# Altium schematic symbol library digital_mcu.SchLib: 16 symbols
Pins are listed as number, name and electrical type; pins without a type are passive.

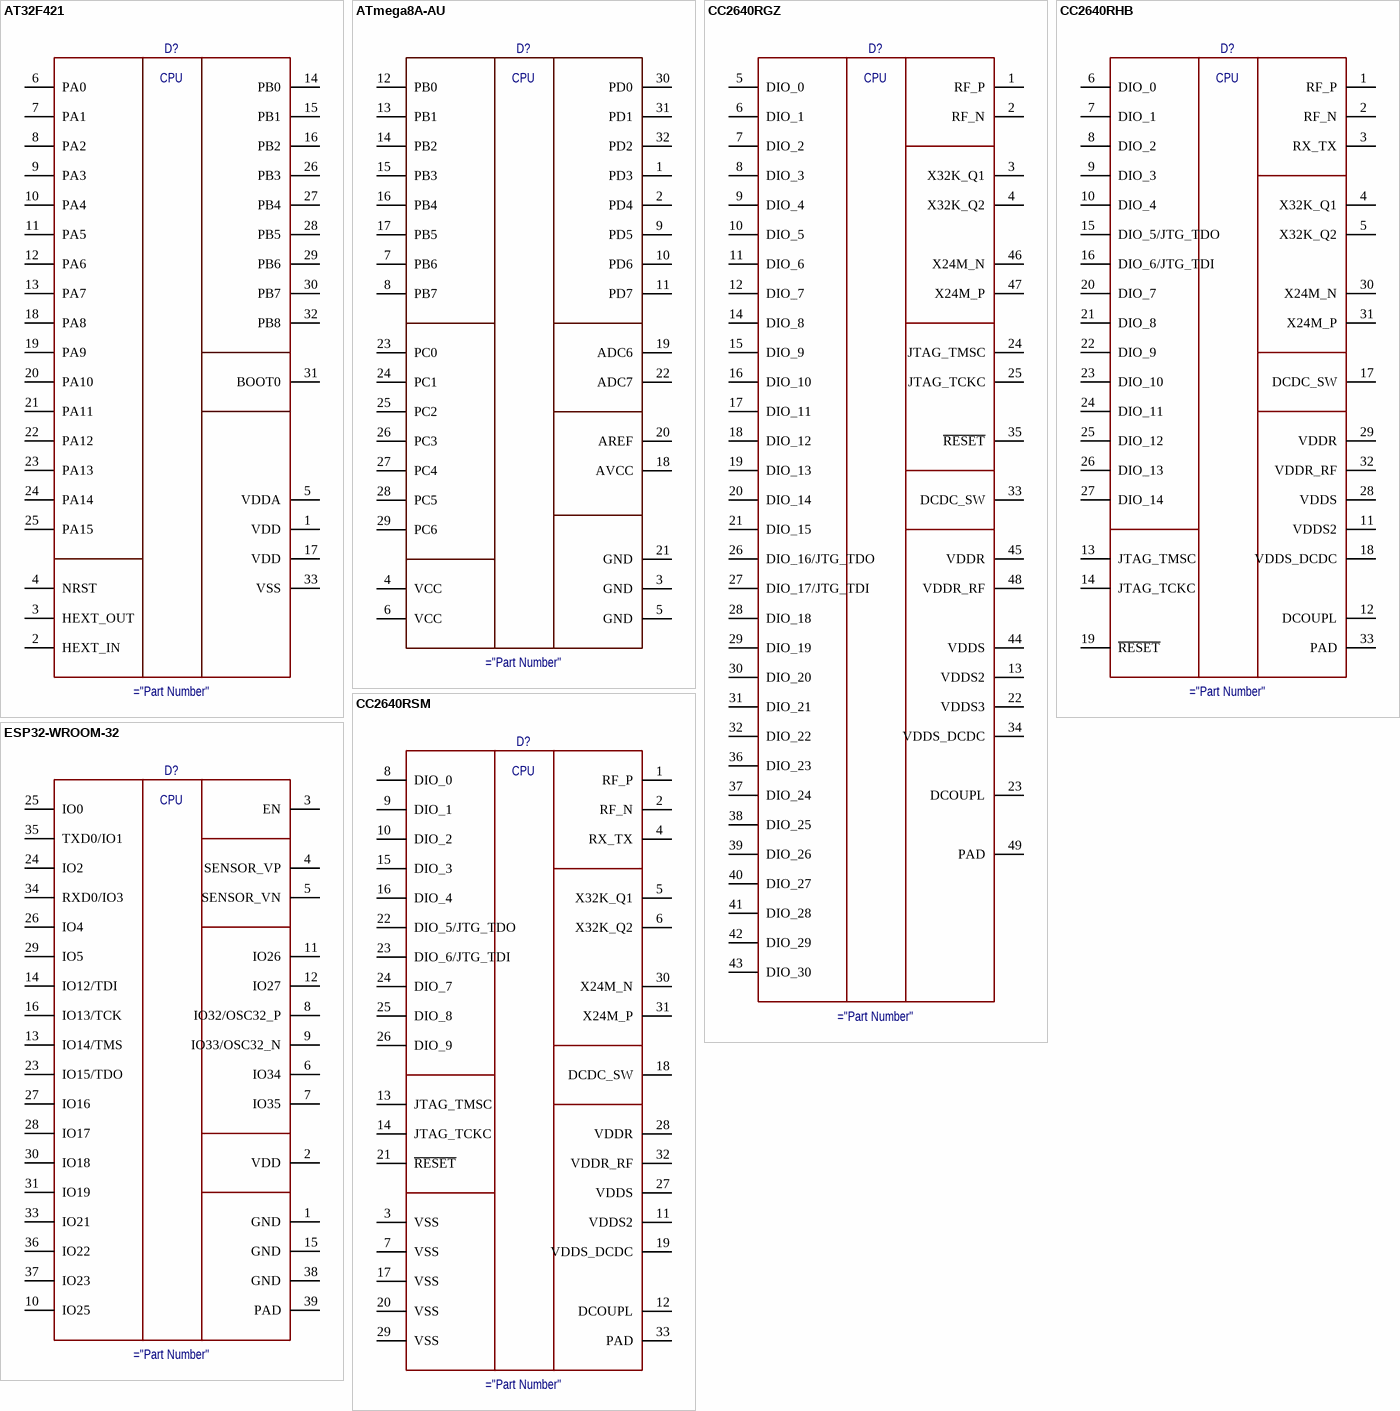
[diagram p0: symbols AT32F421 to ESP32-WROOM-32]

## AT32F421
designator D?
ARM-based 32-bit Cortex-M4 MCU
pins: 1 VDD, 2 HEXT_IN, 3 HEXT_OUT, 4 NRST, 5 VDDA, 6 PA0, 7 PA1, 8 PA2, 9 PA3, 10 PA4, 11 PA5, 12 PA6, 13 PA7, 14 PB0, 15 PB1, 16 PB2, 17 NC hidden, 17 VDD, 18 NC hidden, 18 PA8, 19 NC hidden, 19 PA9, 20 NC hidden, 20 PA10, 21 NC hidden, 21 PA11, 22 NC hidden, 22 PA12, 23 PA13, 24 PA14, 25 PA15, 26 PB3, 27 PB4, 28 PB5, 29 PB6, 30 PB7, 31 BOOT0, 32 NC hidden, 32 PB8, 33 VSS
text: CPU

## ATmega8A-AU
designator D?
MCU ESP32
pins: 1 PD3, 2 PD4, 3 GND, 4 VCC, 5 GND, 6 VCC, 7 PB6, 8 PB7, 9 PD5, 10 PD6, 11 PD7, 12 PB0, 13 PB1, 14 PB2, 15 PB3, 16 PB4, 17 NC hidden, 17 PB5, 18 NC hidden, 18 AVCC, 19 NC hidden, 19 ADC6, 20 NC hidden, 20 AREF, 21 NC hidden, 21 GND, 22 NC hidden, 22 ADC7, 23 PC0, 24 PC1, 25 PC2, 26 PC3, 27 PC4, 28 PC5, 29 PC6, 30 PD0, 31 PD1, 32 NC hidden, 32 PD2
text: CPU

## CC2640RGZ
designator D?
BLE Wireless MCU Cortex-M3 48-pins
pins: 1 RF_P, 2 RF_N, 3 X32K_Q1, 4 X32K_Q2, 5 DIO_0, 6 DIO_1, 7 DIO_2, 8 DIO_3, 9 DIO_4, 10 DIO_5, 11 DIO_6, 12 DIO_7, 13 VDDS2, 14 DIO_8, 15 DIO_9, 16 DIO_10, 17 DIO_11, 18 DIO_12, 19 DIO_13, 20 DIO_14, 21 DIO_15, 22 VDDS3, 23 DCOUPL, 24 JTAG_TMSC, 25 JTAG_TCKC, 26 DIO_16/JTG_TDO, 27 DIO_17/JTG_TDI, 28 DIO_18, 29 DIO_19, 30 DIO_20, 31 DIO_21, 32 DIO_22, 33 DCDC_SW, 34 VDDS_DCDC, 35 ~{RESET}, 36 DIO_23, 37 DIO_24, 38 DIO_25, 39 DIO_26, 40 DIO_27, 41 DIO_28, 42 DIO_29, 43 DIO_30, 44 VDDS, 45 VDDR, 46 X24M_N, 47 X24M_P, 48 VDDR_RF, 49 PAD
text: CPU

## CC2640RHB
designator D?
BLE Wireless MCU Cortex-M3 32-pins
pins: 1 RF_P, 2 RF_N, 3 RX_TX, 4 X32K_Q1, 5 X32K_Q2, 6 DIO_0, 7 DIO_1, 8 DIO_2, 9 DIO_3, 10 DIO_4, 11 VDDS2, 12 DCOUPL, 13 JTAG_TMSC, 14 JTAG_TCKC, 15 DIO_5/JTG_TDO, 16 DIO_6/JTG_TDI, 17 DCDC_SW, 18 VDDS_DCDC, 19 ~{RESET}, 20 DIO_7, 21 DIO_8, 22 DIO_9, 23 DIO_10, 24 DIO_11, 25 DIO_12, 26 DIO_13, 27 DIO_14, 28 VDDS, 29 VDDR, 30 X24M_N, 31 X24M_P, 32 VDDR_RF, 33 PAD
text: CPU

## CC2640RSM
designator D?
BLE Wireless MCU Cortex-M3 32-pins
pins: 1 RF_P, 2 RF_N, 3 VSS, 4 RX_TX, 5 X32K_Q1, 6 X32K_Q2, 7 VSS, 8 DIO_0, 9 DIO_1, 10 DIO_2, 11 VDDS2, 12 DCOUPL, 13 JTAG_TMSC, 14 JTAG_TCKC, 15 DIO_3, 16 DIO_4, 17 VSS, 18 DCDC_SW, 19 VDDS_DCDC, 20 VSS, 21 ~{RESET}, 22 DIO_5/JTG_TDO, 23 DIO_6/JTG_TDI, 24 DIO_7, 25 DIO_8, 26 DIO_9, 27 VDDS, 28 VDDR, 29 VSS, 30 X24M_N, 31 X24M_P, 32 VDDR_RF, 33 PAD
text: CPU

## ESP32-WROOM-32
designator D?
MCU ESP32
pins: 1 GND, 2 VDD, 3 EN, 4 SENSOR_VP, 5 SENSOR_VN, 6 IO34, 7 IO35, 8 IO32/OSC32_P, 9 IO33/OSC32_N, 10 IO25, 11 IO26, 12 IO27, 13 IO14/TMS, 14 IO12/TDI, 15 GND, 16 IO13/TCK, 17 NC hidden, 18 NC hidden, 19 NC hidden, 20 NC hidden, 21 NC hidden, 22 NC hidden, 23 IO15/TDO, 24 IO2, 25 IO0, 26 IO4, 27 IO16, 28 IO17, 29 IO5, 30 IO18, 31 IO19, 32 NC hidden, 33 IO21, 34 RXD0/IO3, 35 TXD0/IO1, 36 IO22, 37 IO23, 38 GND, 39 PAD
text: CPU

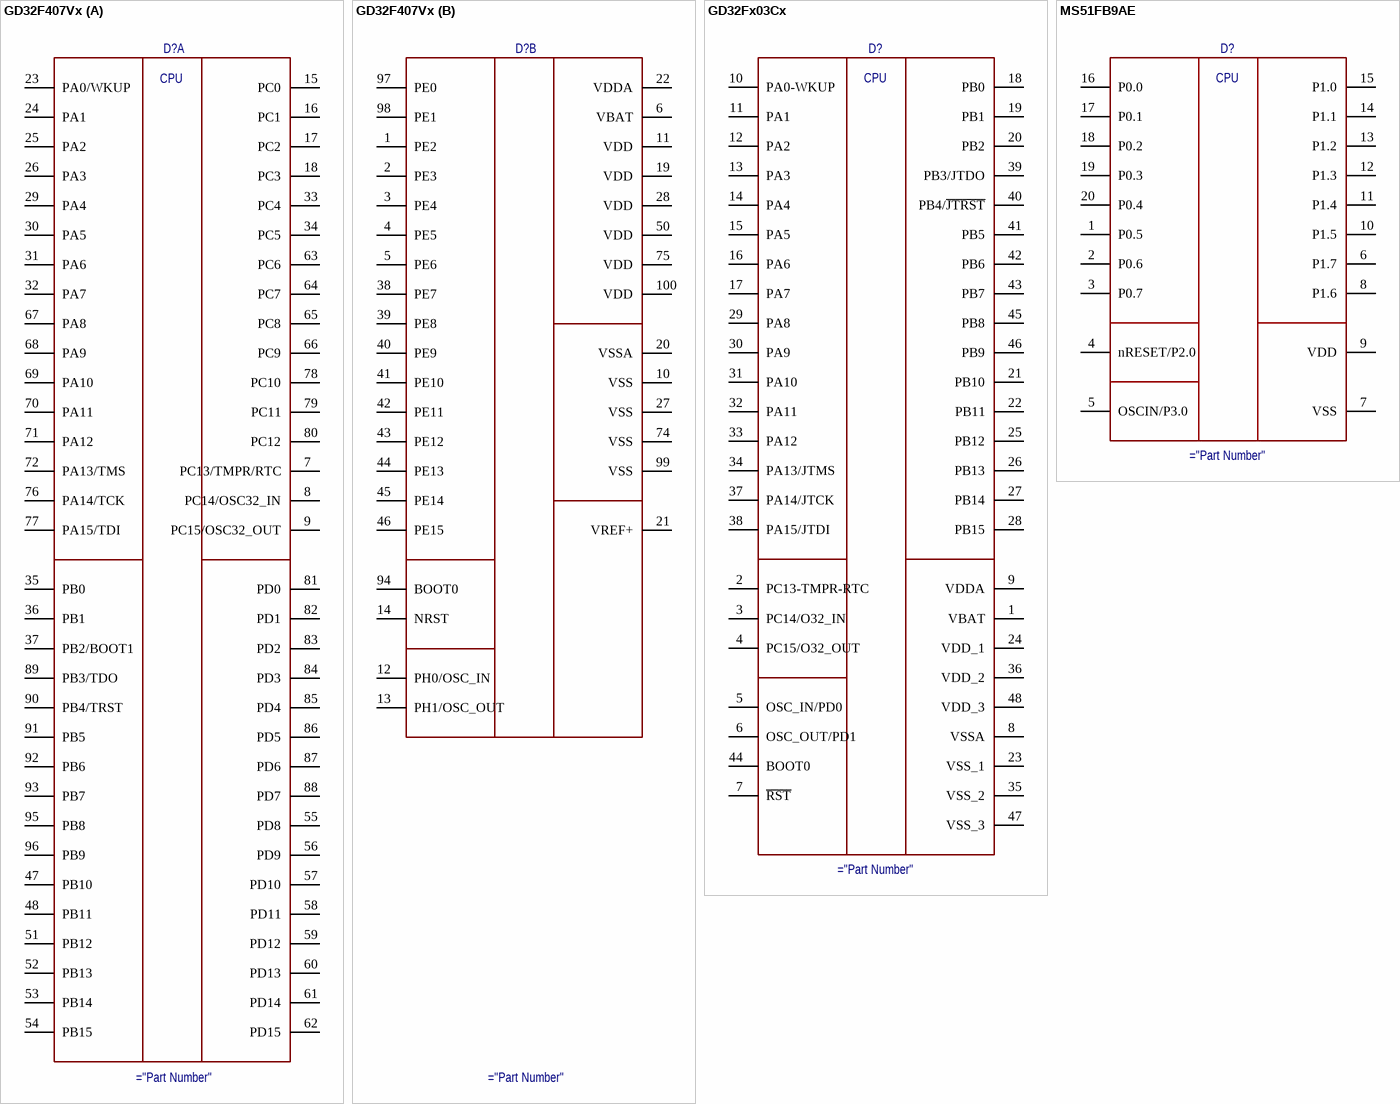
[diagram p1: symbols GD32F407Vx to MS51FB9AE]

## GD32F407Vx
designator D?
MCU Cortex-M
part A pins: 7 PC13/TMPR/RTC, 8 PC14/OSC32_IN, 9 PC15/OSC32_OUT, 15 PC0, 16 PC1, 17 PC2, 18 PC3, 23 PA0/WKUP, 24 PA1, 25 PA2, 26 PA3, 29 PA4, 30 PA5, 31 PA6, 32 PA7, 33 PC4, 34 PC5, 35 PB0, 36 PB1, 37 PB2/BOOT1, 47 PB10, 48 PB11, 51 PB12, 52 PB13, 53 PB14, 54 PB15, 55 PD8, 56 PD9, 57 PD10, 58 PD11, 59 PD12, 60 PD13, 61 PD14, 62 PD15, 63 PC6, 64 PC7, 65 PC8, 66 PC9, 67 PA8, 68 PA9, 69 PA10, 70 PA11, 71 PA12, 72 PA13/TMS, 76 PA14/TCK, 77 PA15/TDI, 78 PC10, 79 PC11, 80 PC12, 81 PD0, 82 PD1, 83 PD2, 84 PD3, 85 PD4, 86 PD5, 87 PD6, 88 PD7, 89 PB3/TDO, 90 PB4/TRST, 91 PB5, 92 PB6, 93 PB7, 95 PB8, 96 PB9
part B pins: 1 PE2, 2 PE3, 3 PE4, 4 PE5, 5 PE6, 6 VBAT (power), 10 VSS (power), 11 VDD (power), 12 PH0/OSC_IN, 13 PH1/OSC_OUT, 14 NRST, 19 VDD (power), 20 VSSA (power), 21 VREF+ (power), 22 VDDA (power), 27 VSS (power), 28 VDD (power), 38 PE7, 39 PE8, 40 PE9, 41 PE10, 42 PE11, 43 PE12, 44 PE13, 45 PE14, 46 PE15, 49 NC (power) hidden, 50 VDD (power), 73 NC (power) hidden, 74 VSS (power), 75 VDD (power), 94 BOOT0, 97 PE0, 98 PE1, 99 VSS (power), 100 VDD (power)
part A text: CPU

## GD32Fx03Cx
designator D?
MCU Cortex-M
pins: 1 VBAT, 2 PC13-TMPR-RTC, 3 PC14/O32_IN, 4 PC15/O32_OUT, 5 OSC_IN/PD0, 6 OSC_OUT/PD1, 7 ~{RST}, 8 VSSA, 9 VDDA, 10 PA0-WKUP, 11 PA1, 12 PA2, 13 PA3, 14 PA4, 15 PA5, 16 PA6, 17 PA7, 18 PB0, 19 PB1, 20 PB2, 21 PB10, 22 PB11, 23 VSS_1, 24 VDD_1, 25 PB12, 26 PB13, 27 PB14, 28 PB15, 29 PA8, 30 PA9, 31 PA10, 32 PA11, 33 PA12, 34 PA13/JTMS, 35 VSS_2, 36 VDD_2, 37 PA14/JTCK, 38 PA15/JTDI, 39 PB3/JTDO, 40 PB4/~{JTRST}, 41 PB5, 42 PB6, 43 PB7, 44 BOOT0, 45 PB8, 46 PB9, 47 VSS_3, 48 VDD_3
text: CPU

## MS51FB9AE
designator D?
8-bit high performance 1T 8051-based MCU
pins: 1 P0.5, 2 P0.6, 3 P0.7, 4 nRESET/P2.0, 5 OSCIN/P3.0, 6 P1.7, 7 VSS, 8 P1.6, 9 VDD, 10 P1.5, 11 P1.4, 12 P1.3, 13 P1.2, 14 P1.1, 15 P1.0, 16 P0.0, 17 P0.1, 18 P0.2, 19 P0.3, 20 P0.4
text: CPU

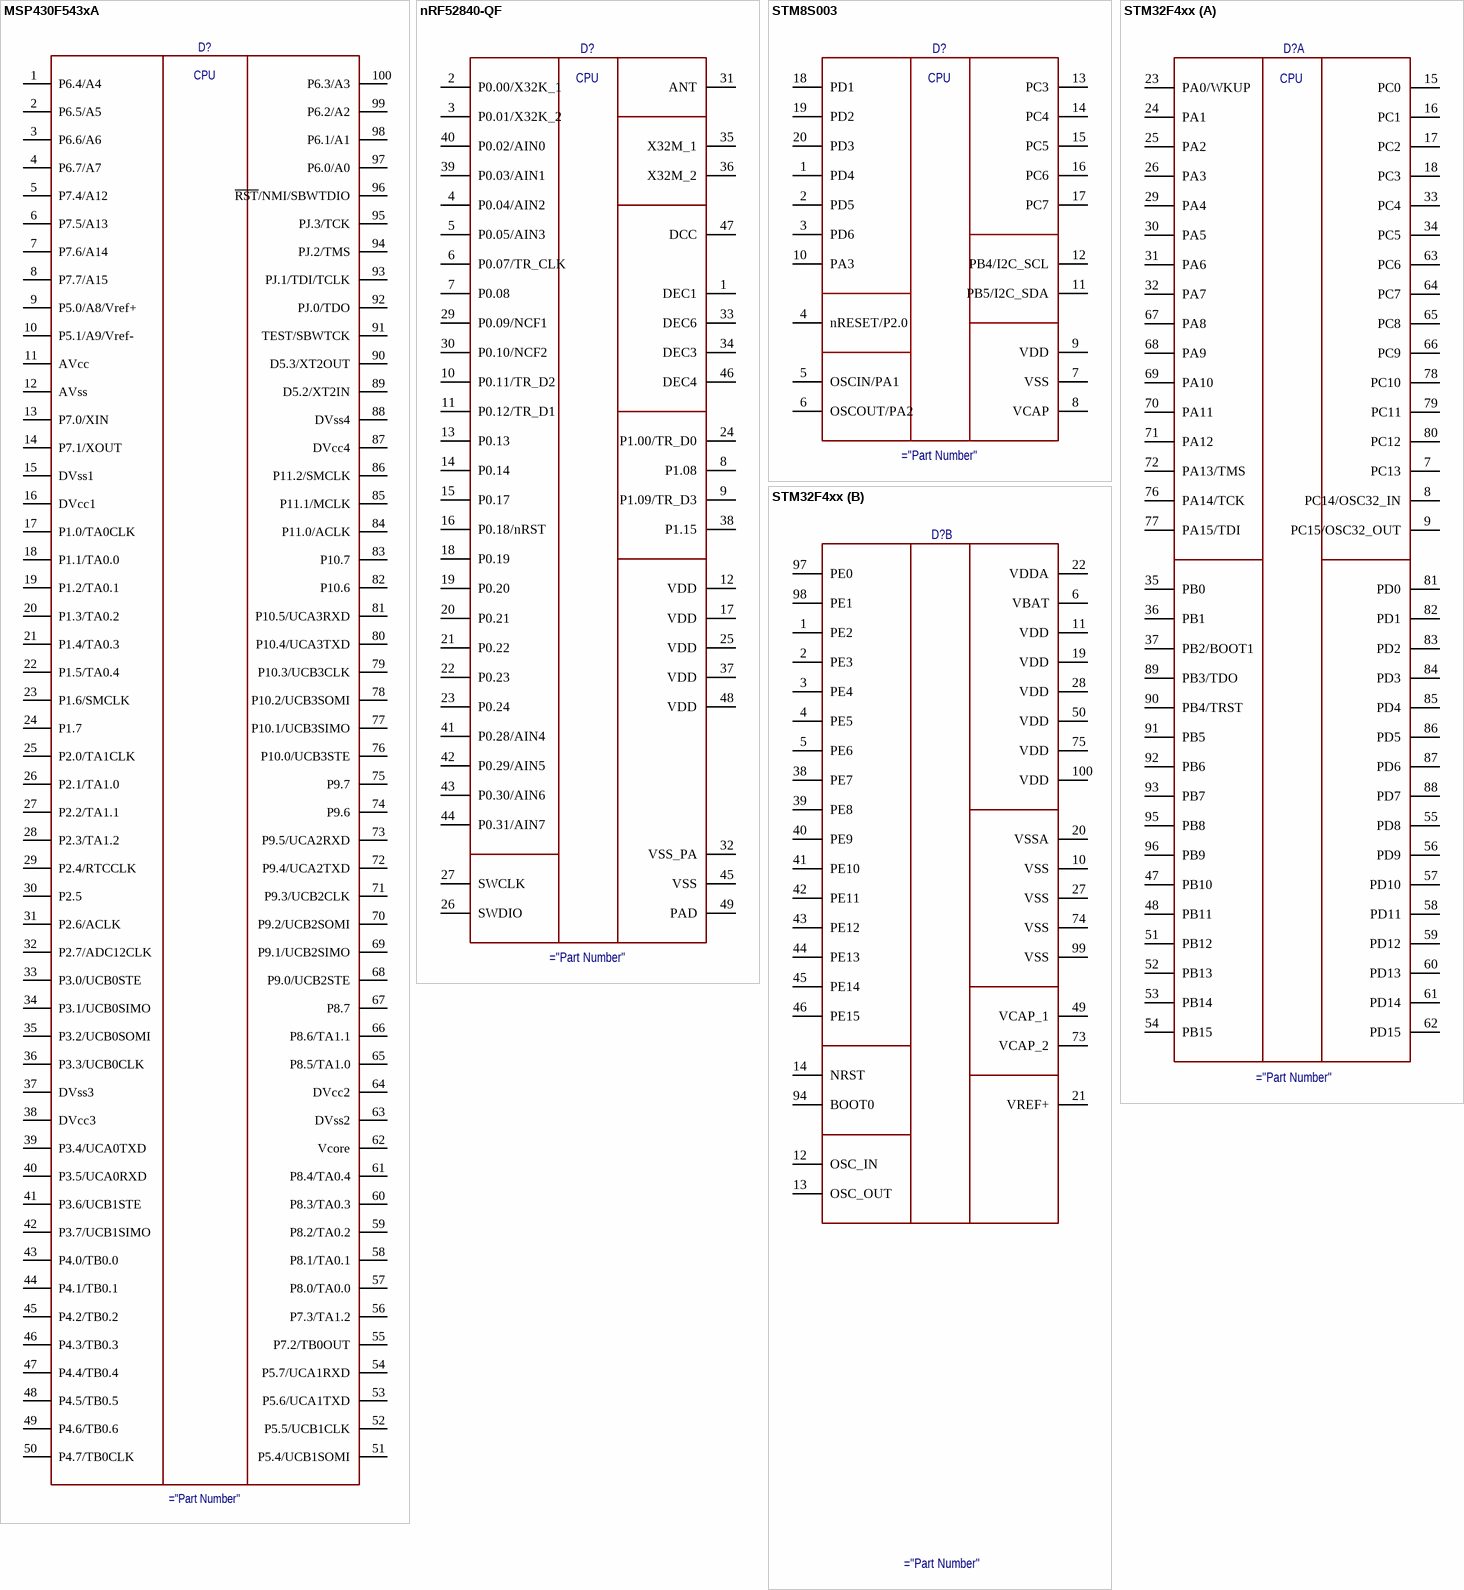
[diagram p2: symbols MSP430F543xA to STM32F4xx]

## MSP430F543xA
designator D?
MCU 16-bit
pins: 1 P6.4/A4, 2 P6.5/A5, 3 P6.6/A6, 4 P6.7/A7, 5 P7.4/A12, 6 P7.5/A13, 7 P7.6/A14, 8 P7.7/A15, 9 P5.0/A8/Vref+, 10 P5.1/A9/Vref-, 11 AVcc, 12 AVss, 13 P7.0/XIN, 14 P7.1/XOUT, 15 DVss1, 16 DVcc1, 17 P1.0/TA0CLK, 18 P1.1/TA0.0, 19 P1.2/TA0.1, 20 P1.3/TA0.2, 21 P1.4/TA0.3, 22 P1.5/TA0.4, 23 P1.6/SMCLK, 24 P1.7, 25 P2.0/TA1CLK, 26 P2.1/TA1.0, 27 P2.2/TA1.1, 28 P2.3/TA1.2, 29 P2.4/RTCCLK, 30 P2.5, 31 P2.6/ACLK, 32 P2.7/ADC12CLK, 33 P3.0/UCB0STE, 34 P3.1/UCB0SIMO, 35 P3.2/UCB0SOMI, 36 P3.3/UCB0CLK, 37 DVss3, 38 DVcc3, 39 P3.4/UCA0TXD, 40 P3.5/UCA0RXD, 41 P3.6/UCB1STE, 42 P3.7/UCB1SIMO, 43 P4.0/TB0.0, 44 P4.1/TB0.1, 45 P4.2/TB0.2, 46 P4.3/TB0.3, 47 P4.4/TB0.4, 48 P4.5/TB0.5, 49 P4.6/TB0.6, 50 P4.7/TB0CLK, 51 P5.4/UCB1SOMI, 52 P5.5/UCB1CLK, 53 P5.6/UCA1TXD, 54 P5.7/UCA1RXD, 55 P7.2/TB0OUT, 56 P7.3/TA1.2, 57 P8.0/TA0.0, 58 P8.1/TA0.1, 59 P8.2/TA0.2, 60 P8.3/TA0.3, 61 P8.4/TA0.4, 62 Vcore, 63 DVss2, 64 DVcc2, 65 P8.5/TA1.0, 66 P8.6/TA1.1, 67 P8.7, 68 P9.0/UCB2STE, 69 P9.1/UCB2SIMO, 70 P9.2/UCB2SOMI, 71 P9.3/UCB2CLK, 72 P9.4/UCA2TXD, 73 P9.5/UCA2RXD, 74 P9.6, 75 P9.7, 76 P10.0/UCB3STE, 77 P10.1/UCB3SIMO, 78 P10.2/UCB3SOMI, 79 P10.3/UCB3CLK, 80 P10.4/UCA3TXD, 81 P10.5/UCA3RXD, 82 P10.6, 83 P10.7, 84 P11.0/ACLK, 85 P11.1/MCLK, 86 P11.2/SMCLK, 87 DVcc4, 88 DVss4, 89 D5.2/XT2IN, 90 D5.3/XT2OUT, 91 TEST/SBWTCK, 92 PJ.0/TDO, 93 PJ.1/TDI/TCLK, 94 PJ.2/TMS, 95 PJ.3/TCK, 96 ~{RST}/NMI/SBWTDIO, 97 P6.0/A0, 98 P6.1/A1, 99 P6.2/A2, 100 P6.3/A3
text: CPU

## nRF52840-QF
designator D?
BLE Wireless MCU Cortex-M4 48-pins
pins: 1 DEC1, 2 P0.00/X32K_1, 3 P0.01/X32K_2, 4 P0.04/AIN2, 5 P0.05/AIN3, 6 P0.07/TR_CLK, 7 P0.08, 8 P1.08, 9 P1.09/TR_D3, 10 P0.11/TR_D2, 11 P0.12/TR_D1, 12 VDD, 13 P0.13, 14 P0.14, 15 P0.17, 16 P0.18/nRST, 17 VDD, 18 P0.19, 19 P0.20, 20 P0.21, 21 P0.22, 22 P0.23, 23 P0.24, 24 P1.00/TR_D0, 25 VDD, 26 SWDIO, 27 SWCLK, 28 NC hidden, 29 P0.09/NCF1, 30 P0.10/NCF2, 31 ANT, 32 VSS_PA, 33 DEC6, 34 DEC3, 35 X32M_1, 36 X32M_2, 37 VDD, 38 P1.15, 39 P0.03/AIN1, 40 P0.02/AIN0, 41 P0.28/AIN4, 42 P0.29/AIN5, 43 P0.30/AIN6, 44 P0.31/AIN7, 45 VSS, 46 DEC4, 47 DCC, 48 VDD, 49 PAD
text: CPU

## STM8S003
designator D?
8-bit high performance 1T 8051-based MCU
pins: 1 PD4, 2 PD5, 3 PD6, 4 nRESET/P2.0, 5 OSCIN/PA1, 6 OSCOUT/PA2, 7 VSS, 8 VCAP, 9 VDD, 10 PA3, 11 PB5/I2C_SDA, 12 PB4/I2C_SCL, 13 PC3, 14 PC4, 15 PC5, 16 PC6, 17 PC7, 18 PD1, 19 PD2, 20 PD3
text: CPU

## STM32F4xx
designator D?
MCU Cortex-M4
part A pins: 7 PC13, 8 PC14/OSC32_IN, 9 PC15/OSC32_OUT, 15 PC0, 16 PC1, 17 PC2, 18 PC3, 23 PA0/WKUP, 24 PA1, 25 PA2, 26 PA3, 29 PA4, 30 PA5, 31 PA6, 32 PA7, 33 PC4, 34 PC5, 35 PB0, 36 PB1, 37 PB2/BOOT1, 47 PB10, 48 PB11, 51 PB12, 52 PB13, 53 PB14, 54 PB15, 55 PD8, 56 PD9, 57 PD10, 58 PD11, 59 PD12, 60 PD13, 61 PD14, 62 PD15, 63 PC6, 64 PC7, 65 PC8, 66 PC9, 67 PA8, 68 PA9, 69 PA10, 70 PA11, 71 PA12, 72 PA13/TMS, 76 PA14/TCK, 77 PA15/TDI, 78 PC10, 79 PC11, 80 PC12, 81 PD0, 82 PD1, 83 PD2, 84 PD3, 85 PD4, 86 PD5, 87 PD6, 88 PD7, 89 PB3/TDO, 90 PB4/TRST, 91 PB5, 92 PB6, 93 PB7, 95 PB8, 96 PB9
part B pins: 1 PE2, 2 PE3, 3 PE4, 4 PE5, 5 PE6, 6 VBAT (power), 10 VSS (power), 11 VDD (power), 12 OSC_IN, 13 OSC_OUT, 14 NRST, 19 VDD (power), 20 VSSA (power), 21 VREF+ (power), 22 VDDA (power), 27 VSS (power), 28 VDD (power), 38 PE7, 39 PE8, 40 PE9, 41 PE10, 42 PE11, 43 PE12, 44 PE13, 45 PE14, 46 PE15, 49 VCAP_1 (power), 50 VDD (power), 73 VCAP_2 (power), 74 VSS (power), 75 VDD (power), 94 BOOT0, 97 PE0, 98 PE1, 99 VSS (power), 100 VDD (power)
part A text: CPU

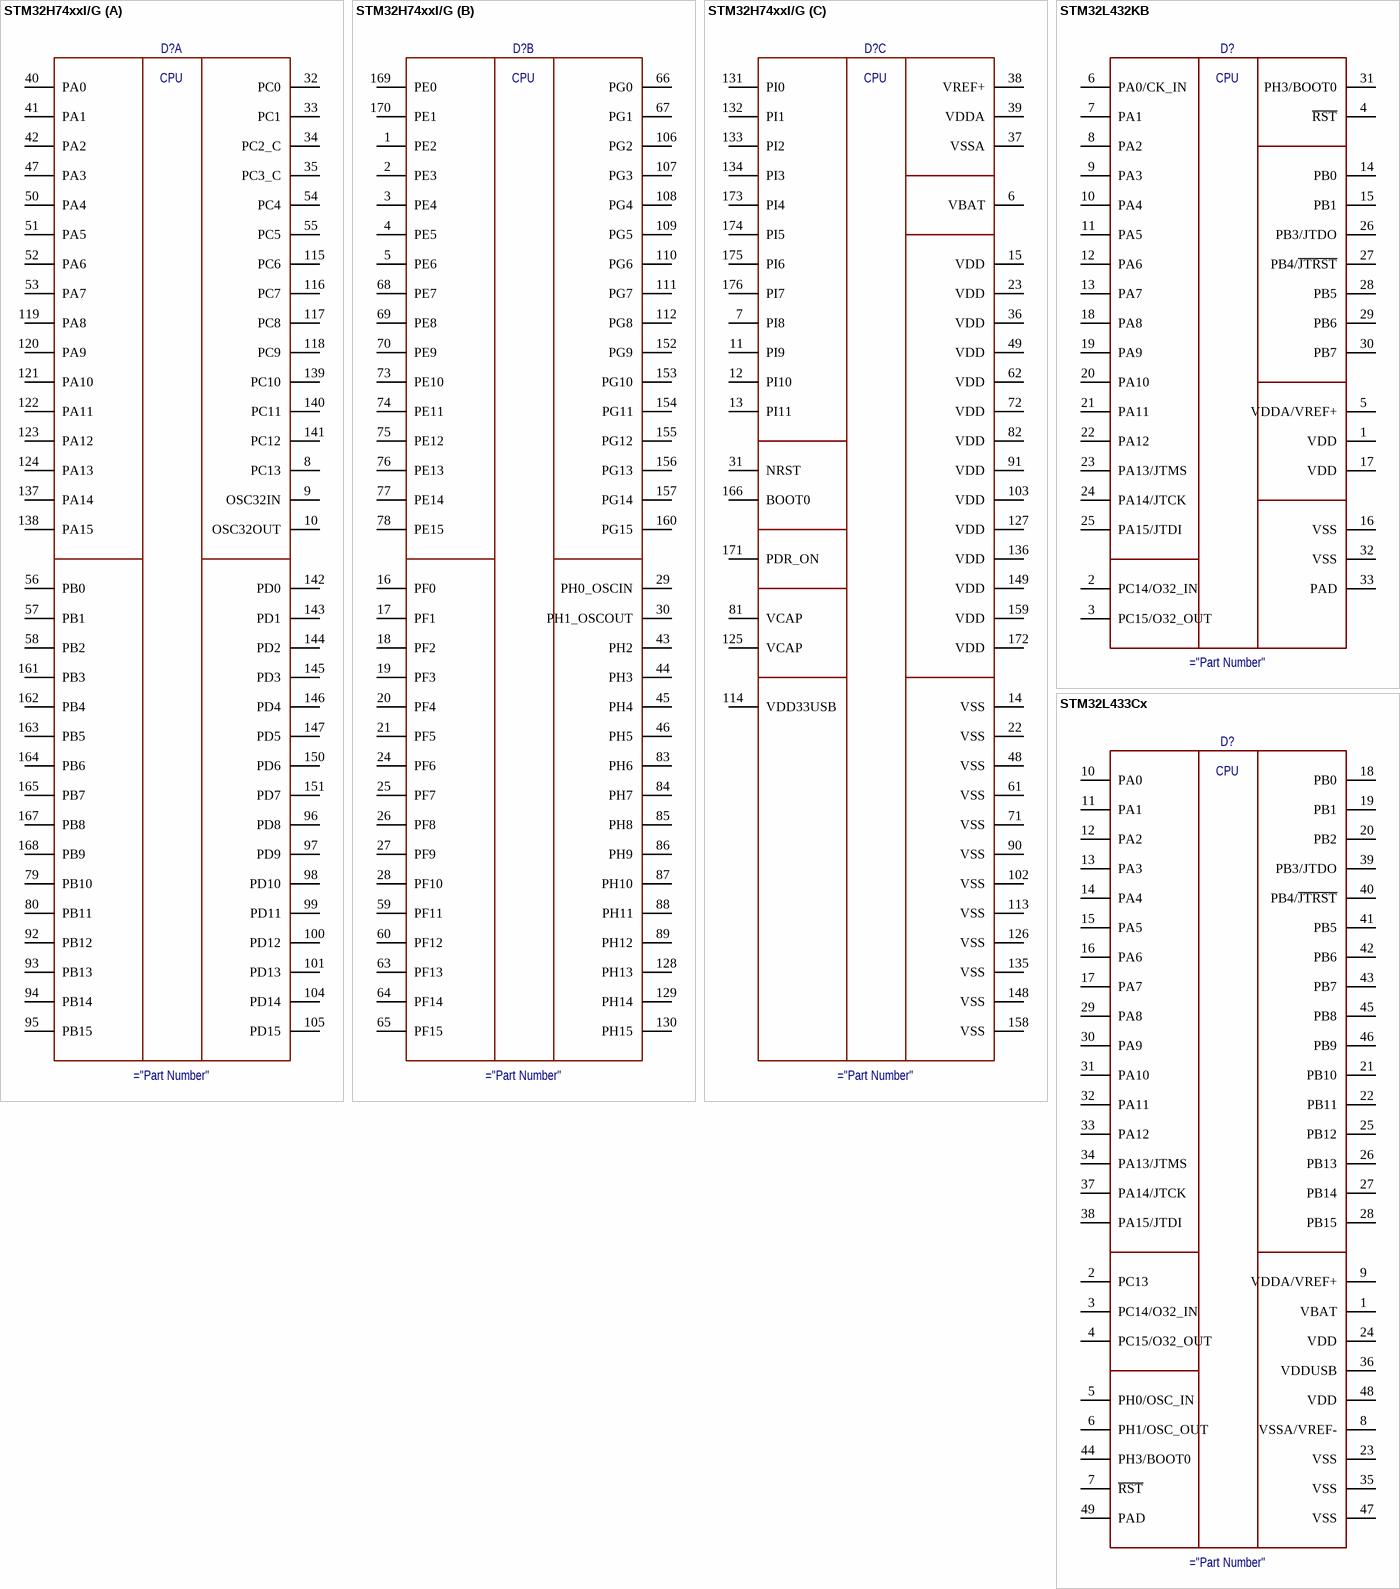
[diagram p3: symbols STM32H74xxI/G to STM32L433Cx]

## STM32H74xxI/G
designator D?
MCU Dual 32-bit Cortex-M7 up to 480MHz and -M4
part A pins: 8 PC13, 9 OSC32IN, 10 OSC32OUT, 32 PC0, 33 PC1, 34 PC2_C, 35 PC3_C, 40 PA0, 41 PA1, 42 PA2, 47 PA3, 50 PA4, 51 PA5, 52 PA6, 53 PA7, 54 PC4, 55 PC5, 56 PB0, 57 PB1, 58 PB2, 79 PB10, 80 PB11, 92 PB12, 93 PB13, 94 PB14, 95 PB15, 96 PD8, 97 PD9, 98 PD10, 99 PD11, 100 PD12, 101 PD13, 104 PD14, 105 PD15, 115 PC6, 116 PC7, 117 PC8, 118 PC9, 119 PA8, 120 PA9, 121 PA10, 122 PA11, 123 PA12, 124 PA13, 137 PA14, 138 PA15, 139 PC10, 140 PC11, 141 PC12, 142 PD0, 143 PD1, 144 PD2, 145 PD3, 146 PD4, 147 PD5, 150 PD6, 151 PD7, 161 PB3, 162 PB4, 163 PB5, 164 PB6, 165 PB7, 167 PB8, 168 PB9
part B pins: 1 PE2, 2 PE3, 3 PE4, 4 PE5, 5 PE6, 16 PF0, 17 PF1, 18 PF2, 19 PF3, 20 PF4, 21 PF5, 24 PF6, 25 PF7, 26 PF8, 27 PF9, 28 PF10, 29 PH0_OSCIN, 30 PH1_OSCOUT, 43 PH2, 44 PH3, 45 PH4, 46 PH5, 59 PF11, 60 PF12, 63 PF13, 64 PF14, 65 PF15, 66 PG0, 67 PG1, 68 PE7, 69 PE8, 70 PE9, 73 PE10, 74 PE11, 75 PE12, 76 PE13, 77 PE14, 78 PE15, 83 PH6, 84 PH7, 85 PH8, 86 PH9, 87 PH10, 88 PH11, 89 PH12, 106 PG2, 107 PG3, 108 PG4, 109 PG5, 110 PG6, 111 PG7, 112 PG8, 128 PH13, 129 PH14, 130 PH15, 152 PG9, 153 PG10, 154 PG11, 155 PG12, 156 PG13, 157 PG14, 160 PG15, 169 PE0, 170 PE1
part C pins: 6 VBAT, 7 PI8, 11 PI9, 12 PI10, 13 PI11, 14 VSS, 15 VDD, 22 VSS, 23 VDD, 31 NRST, 36 VDD, 37 VSSA, 38 VREF+, 39 VDDA, 48 VSS, 49 VDD, 61 VSS, 62 VDD, 71 VSS, 72 VDD, 81 VCAP, 82 VDD, 90 VSS, 91 VDD, 102 VSS, 103 VDD, 113 VSS, 114 VDD33USB, 125 VCAP, 126 VSS, 127 VDD, 131 PI0, 132 PI1, 133 PI2, 134 PI3, 135 VSS, 136 VDD, 148 VSS, 149 VDD, 158 VSS, 159 VDD, 166 BOOT0, 171 PDR_ON, 172 VDD, 173 PI4, 174 PI5, 175 PI6, 176 PI7
part A text: CPU
part B text: CPU
part C text: CPU

## STM32L432KB
designator D?
MCU Cortex-M4
pins: 1 VDD, 2 PC14/O32_IN, 3 PC15/O32_OUT, 4 ~{RST}, 5 VDDA/VREF+, 6 PA0/CK_IN, 7 PA1, 8 PA2, 9 PA3, 10 PA4, 11 PA5, 12 PA6, 13 PA7, 14 PB0, 15 PB1, 16 VSS, 17 VDD, 18 PA8, 19 PA9, 20 PA10, 21 PA11, 22 PA12, 23 PA13/JTMS, 24 PA14/JTCK, 25 PA15/JTDI, 26 PB3/JTDO, 27 PB4/~{JTRST}, 28 PB5, 29 PB6, 30 PB7, 31 PH3/BOOT0, 32 VSS, 33 PAD
text: CPU

## STM32L433Cx
designator D?
MCU Cortex-M4
pins: 1 VBAT, 2 PC13, 3 PC14/O32_IN, 4 PC15/O32_OUT, 5 PH0/OSC_IN, 6 PH1/OSC_OUT, 7 ~{RST}, 8 VSSA/VREF-, 9 VDDA/VREF+, 10 PA0, 11 PA1, 12 PA2, 13 PA3, 14 PA4, 15 PA5, 16 PA6, 17 PA7, 18 PB0, 19 PB1, 20 PB2, 21 PB10, 22 PB11, 23 VSS, 24 VDD, 25 PB12, 26 PB13, 27 PB14, 28 PB15, 29 PA8, 30 PA9, 31 PA10, 32 PA11, 33 PA12, 34 PA13/JTMS, 35 VSS, 36 VDDUSB, 37 PA14/JTCK, 38 PA15/JTDI, 39 PB3/JTDO, 40 PB4/~{JTRST}, 41 PB5, 42 PB6, 43 PB7, 44 PH3/BOOT0, 45 PB8, 46 PB9, 47 VSS, 48 VDD, 49 PAD
text: CPU